# Altium schematic symbol library SMD кварци.SchLib: 1 symbol
Pins are listed as number, name and electrical type; pins without a type are passive.

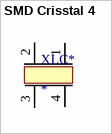
[diagram p0: symbol SMD Crisstal 4]

## SMD Crisstal 4
designator XLC*
footprint SMD4
pins: 1 (power), 2 (power), 3 (power), 4 (power)